# Altium schematic symbol library BKP1608 - Ferrite Bead.SchLib: 1 symbol
Pins are listed as number, name and electrical type; pins without a type are passive.

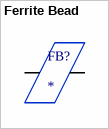
[diagram p0: symbol Ferrite Bead]

## Ferrite Bead
designator FB?
Ferrite Bead; Supplier Part #: 587-1922-1-ND; Supplier: DigiKey
footprint INDC1608X09N (Chip Inductor, 2-Leads, Body 1.6x0.8mm, IPC Medium Density)
pins: 1, 2